# Altium integrated library ISSI SRAM Synchronous SRAM No-Wait(ZBT).IntLib: 1246 symbols (part 67 of 152)
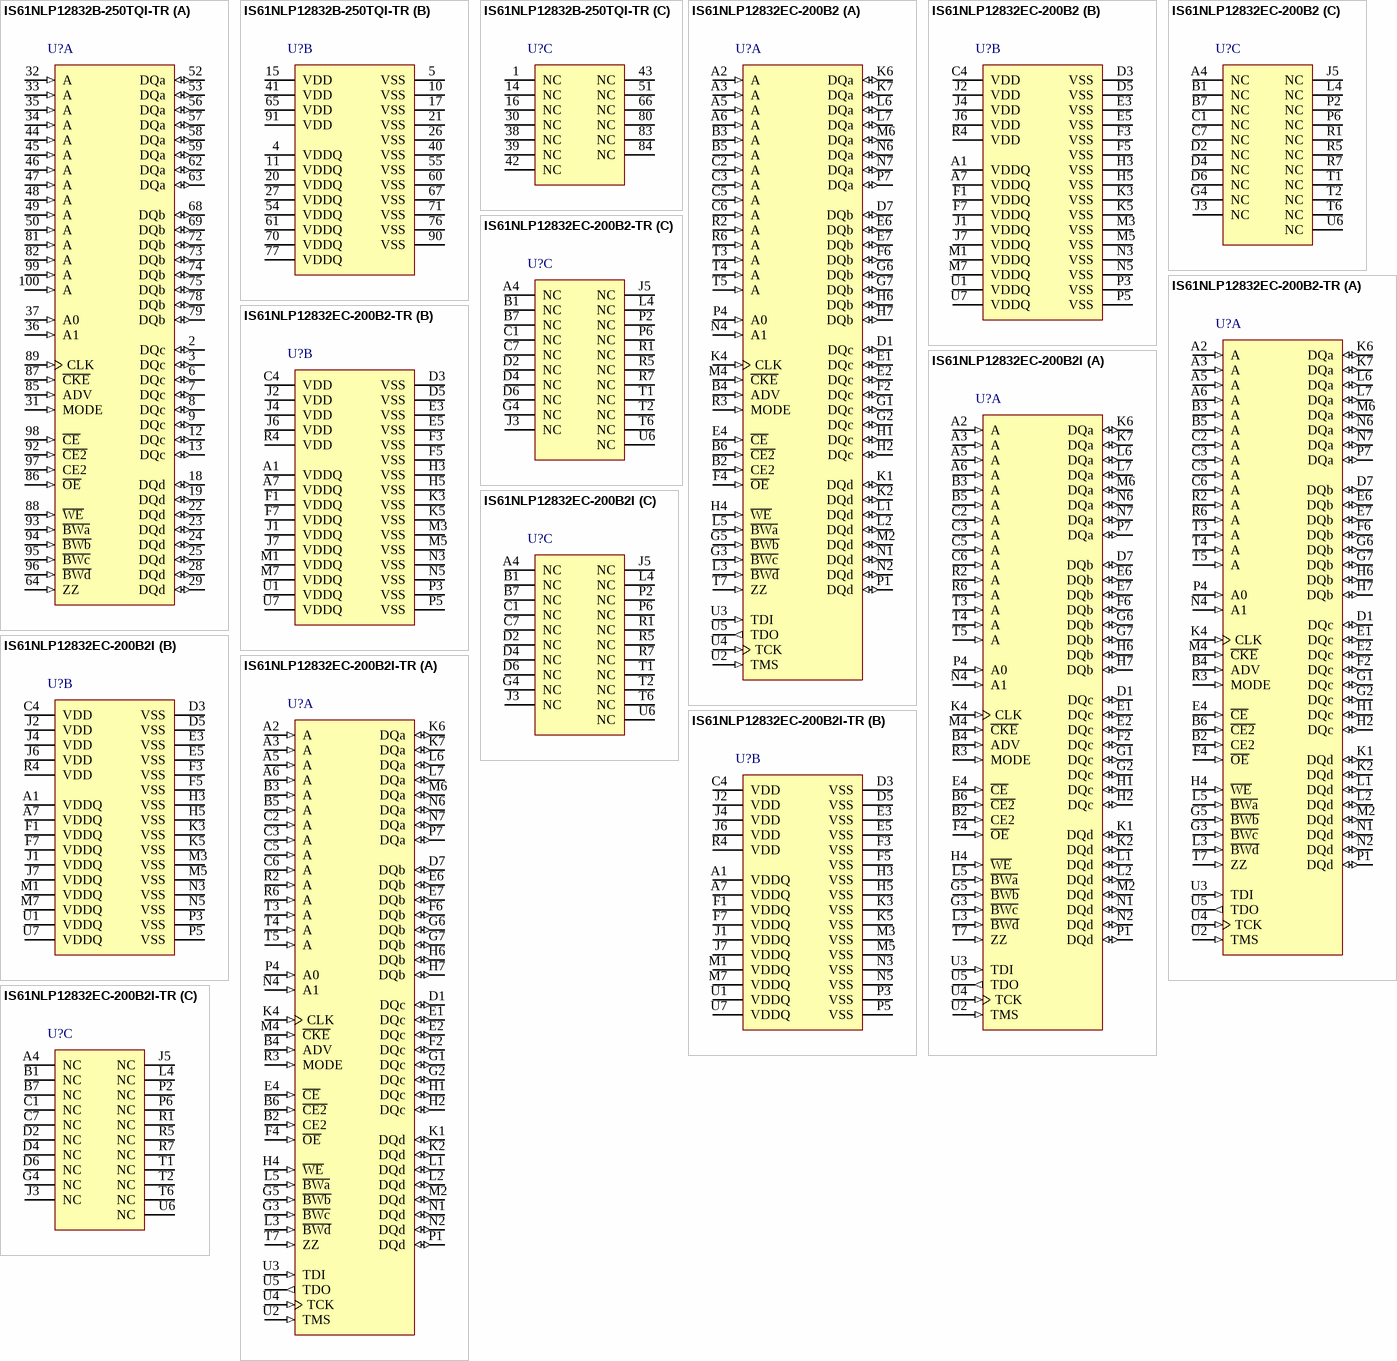
[diagram p371: symbols IS61NLP12832B-250TQI-TR to IS61NLP12832EC-200B2I-TR]

## IS61NLP12832EC-200B2I-TR
designator U?
4 M Pipeline 'No Wait' State Bus Synchronous SRAM with ECC, 128 K x 32, -40 to 85 degC, 119-Pin BGA (PBGA-119); Manufacturer: Integrated Silicon Solution Inc (ISSI); PartNumber: IS61NLP12832EC-200B2I-TR; Density: 4M; Packing: Tape & Reel; Vcc: 3.3 V; VccQ: 2.5 / 3.3 V; DatasheetVersion: Rev. A; PackageVersion: Rev. D, 10/2008; PackageReference: PBGA-119; PackageDescription: 119-Pin 14 x 22 mm PBGA, Pitch 1.27 mm; Organization: 128Kx32; Mounting Technology: Surface Mount; Code_JEDEC: MS-028; ComponentLink1Description: Manufacturer URL; ComponentLink1URL: http://www.issi.com/US/index.shtml; ComponentLink2Description: Datasheet; ComponentLink2URL: http://www.issi.com/WW/pdf/61-64NLP_NVP12832EC-12836EC-25618EC.pdf; ComponentLink3Description: Package Specification; ComponentLink3URL: http://www.issi.com/WW/pdf/61NLP_NVP25636A_51218A.pdf
footprint ISSI-PBGA-119-14000X22000DE (BGA, 119-Balls, Body 22x14mm, Pitch 1.27mm)
part A pins: A2 A (in) "Synchronous Address Input", A3 A (in) "Synchronous Address Input", A5 A (in) "Synchronous Address Input", A6 A (in) "Synchronous Address Input", B2 CE2 (in) "Synchronous Chip Enable", B3 A (in) "Synchronous Address Input", B4 ADV (in) "Synchronous Advance/Load", B5 A (in) "Synchronous Address Input", B6 ~{CE2} (in) "Synchronous Chip Enable", C2 A (in) "Synchronous Address Input", C3 A (in) "Synchronous Address Input", C5 A (in) "Synchronous Address Input", C6 A (in) "Synchronous Address Input", D1 DQc (io) "Synchronous Data Input/Output", D7 DQb (io) "Synchronous Data Input/Output", E1 DQc (io) "Synchronous Data Input/Output", E2 DQc (io) "Synchronous Data Input/Output", E4 ~{CE} (in) "Synchronous Chip Enable", E6 DQb (io) "Synchronous Data Input/Output", E7 DQb (io) "Synchronous Data Input/Output", F2 DQc (io) "Synchronous Data Input/Output", F4 ~{OE} (in) "Asynchronous Output Enable", F6 DQb (io) "Synchronous Data Input/Output", G1 DQc (io) "Synchronous Data Input/Output", G2 DQc (io) "Synchronous Data Input/Output", G3 ~{BWc} (in) "Synchronous Byte Write Input", G5 ~{BWb} (in) "Synchronous Byte Write Input", G6 DQb (io) "Synchronous Data Input/Output", G7 DQb (io) "Synchronous Data Input/Output", H1 DQc (io) "Synchronous Data Input/Output", H2 DQc (io) "Synchronous Data Input/Output", H4 ~{WE} (in) "Synchronous Read/Write Control Input", H6 DQb (io) "Synchronous Data Input/Output", H7 DQb (io) "Synchronous Data Input/Output", K1 DQd (io) "Synchronous Data Input/Output", K2 DQd (io) "Synchronous Data Input/Output", K4 CLK (in) "Synchronous Clock", K6 DQa (io) "Synchronous Data Input/Output", K7 DQa (io) "Synchronous Data Input/Output", L1 DQd (io) "Synchronous Data Input/Output", L2 DQd (io) "Synchronous Data Input/Output", L3 ~{BWd} (in) "Synchronous Byte Write Input", L5 ~{BWa} (in) "Synchronous Byte Write Input", L6 DQa (io) "Synchronous Data Input/Output", L7 DQa (io) "Synchronous Data Input/Output", M2 DQd (io) "Synchronous Data Input/Output", M4 ~{CKE} (in) "Clock Enable", M6 DQa (io) "Synchronous Data Input/Output", N1 DQd (io) "Synchronous Data Input/Output", N2 DQd (io) "Synchronous Data Input/Output", N4 A1 (in) "Synchronous Burst Address Input", N6 DQa (io) "Synchronous Data Input/Output", N7 DQa (io) "Synchronous Data Input/Output", P1 DQd (io) "Synchronous Data Input/Output", P4 A0 (in) "Synchronous Burst Address Input", P7 DQa (io) "Synchronous Data Input/Output", R2 A (in) "Synchronous Address Input", R3 MODE (in) "Burst Sequence Selection", R6 A (in) "Synchronous Address Input", T3 A (in) "Synchronous Address Input", T4 A (in) "Synchronous Address Input", T5 A (in) "Synchronous Address Input", T7 ZZ (in) "Asynchronous Power Sleep Mode", U2 TMS (in) "JTAG Pins", U3 TDI (in) "JTAG Pins", U4 TCK (in) "JTAG Pins", U5 TDO (out) "JTAG Pins"
part B pins: A1 VDDQ (power) "I/O Power Supply", A7 VDDQ (power) "I/O Power Supply", C4 VDD (power) "Power Supply", D3 VSS (power) "Ground", D5 VSS (power) "Ground", E3 VSS (power) "Ground", E5 VSS (power) "Ground", F1 VDDQ (power) "I/O Power Supply", F3 VSS (power) "Ground", F5 VSS (power) "Ground", F7 VDDQ (power) "I/O Power Supply", H3 VSS (power) "Ground", H5 VSS (power) "Ground", J1 VDDQ (power) "I/O Power Supply", J2 VDD (power) "Power Supply", J4 VDD (power) "Power Supply", J6 VDD (power) "Power Supply", J7 VDDQ (power) "I/O Power Supply", K3 VSS (power) "Ground", K5 VSS (power) "Ground", M1 VDDQ (power) "I/O Power Supply", M3 VSS (power) "Ground", M5 VSS (power) "Ground", M7 VDDQ (power) "I/O Power Supply", N3 VSS (power) "Ground", N5 VSS (power) "Ground", P3 VSS (power) "Ground", P5 VSS (power) "Ground", R4 VDD (power) "Power Supply", U1 VDDQ (power) "I/O Power Supply", U7 VDDQ (power) "I/O Power Supply"
part C pins: A4 NC "No Connect", B1 NC "No Connect", B7 NC "No Connect", C1 NC "No Connect", C7 NC "No Connect", D2 NC "No Connect", D4 NC "No Connect", D6 NC "No Connect", G4 NC "No Connect", J3 NC "No Connect", J5 NC "No Connect", L4 NC "No Connect", P2 NC "No Connect", P6 NC "No Connect", R1 NC "No Connect", R5 NC "No Connect", R7 NC "No Connect", T1 NC "No Connect", T2 NC "No Connect", T6 NC "No Connect", U6 NC "No Connect"

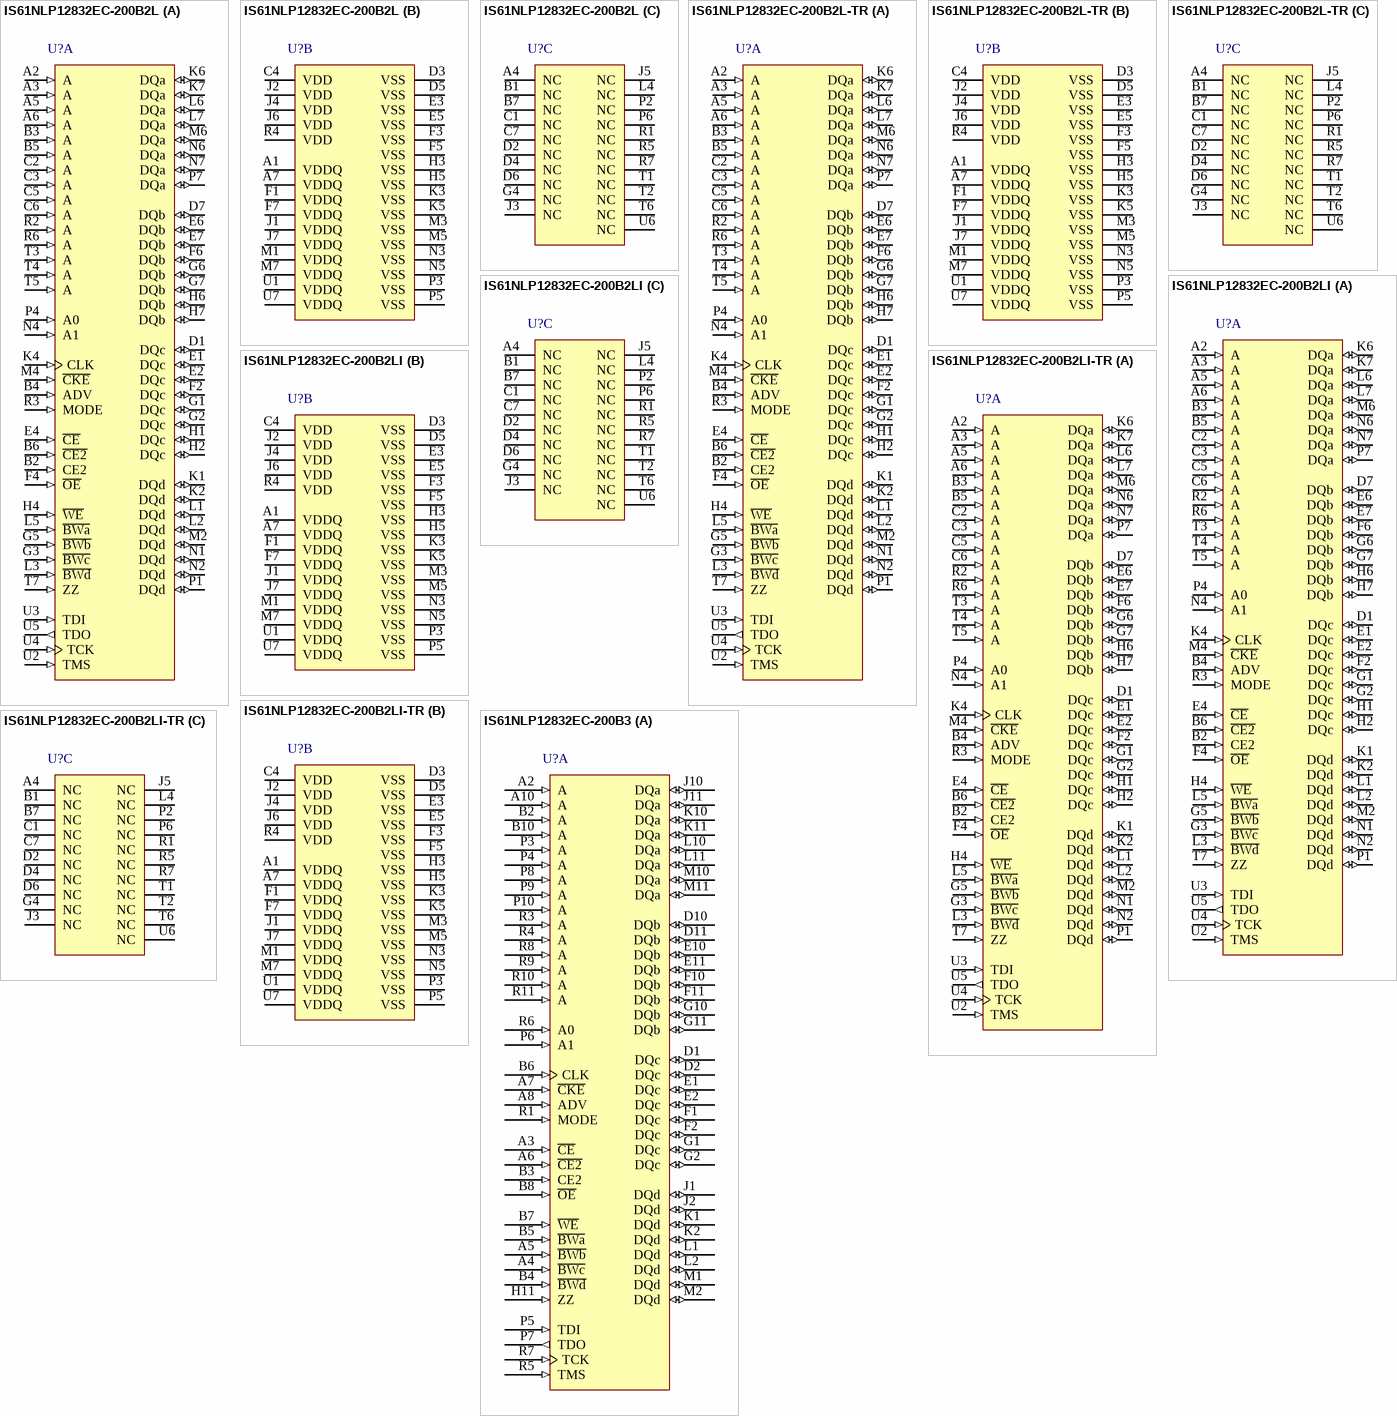
[diagram p66: symbols IS61NLP12832EC-200B2L to IS61NLP12832EC-200B3]